# Altium footprint library bien tro 100k.PcbLib: 2 footprints
Each footprint in its own frame and in the unit in brackets; x right, y up, seen from the top. Pads: shape width x height; smd on the part's side, far side on the other; paste and mask are expansions set on the pad; w line width, h text height; cw(c..) or ccw(c..) is an arc to the next point about the centre after c.
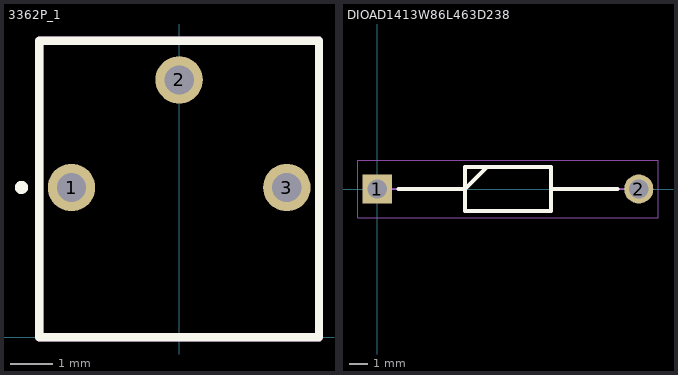
[diagram p0: the footprints below, top view; thin cyan lines are the x and y axes]

## 3362P_1 [mm]
pads (3):
  round 1.12 hole 0.69: 1(-2.54,3.53) 2(0,6.07) 3(2.54,3.53)
Top Overlay:
  circle w0.2: c-3.722,3.532 r0.057
  lines w0.2: -3.3,0 3.3,0 3.3,6.99 -3.3,6.99 -3.3,0
Mechanical 13:
  lines w0.2: -3.3,0 -3.3,6.99 3.3,6.99 3.3,0 -3.3,0
3D body "3362P-1-253LF.stp": height 4.61, standoff -4.89, extent -3.3,0 3.3,6.99

## DIOAD1413W86L463D238 [mm]
pads (2):
  rect 1.575x1.575 hole 1.05: 1(0,0)
  round 1.575 hole 1.05: 2(14.1,0)
Top Overlay:
  lines w0.2: 1.138,0 4.735,0 5.922,1.188 ; 9.365,0 12.962,0 ; 4.735,-1.188 4.735,1.188 9.365,1.188 9.365,-1.188 4.735,-1.188
Mechanical 13:
  lines w0.1: 0,0 4.735,0 5.923,1.188 ; 9.365,0 14.1,0 ; 4.735,-1.187 4.735,1.188 9.365,1.188 9.365,-1.187 4.735,-1.187
Mechanical 15:
  lines w0.05: -1.038,-1.537 -1.038,1.538 15.137,1.538 15.137,-1.537 -1.038,-1.537
3D body "UF4007.stp": height 2.38, standoff -4, extent -0.407,-1.188 14.508,1.188